# Altium schematic symbol library CONNECTEUR_FEMELLE_2-54mm_20_POS.SchLib: 1 symbol
Pins are listed as number, name and electrical type; pins without a type are passive.

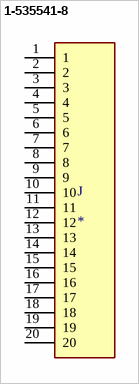
[diagram p0: symbol 1-535541-8]

## 1-535541-8
designator J
Connector Socket Strip RCP 20 POS 2.54mm Solder ST Thru-Hole Gang of Tubes; MF: TE Connectivity; Centerline_Pitch: 2.54 mm[.1 in]; Number_of_Positions: 20; MP: 1-535541-8; SnapEDA_Link: https://www.snapeda.com/parts/1-535541-8/TE%20Connectivity/view-part/1331156/?ref=snap; Value: *; EU_RoHS_Compliance: Not Compliant; Product_Type: Connector; Digi-Key_Purchase_URL: https://www.digikey.com/product-detail/en/te-connectivity-amp-connectors/1-535541-8/A26483-ND/291355?utm_source=snapeda&utm_medium=aggregator&utm_campaign=symbol; Digi-Key_Part_Number: A26483-ND; Package: None; TE_purchase_URL: https://www.te.com/usa-en/product-1-535541-8.html?te_bu=Cor&te_type=disp&te_campaign=seda_glo_cor-seda-global-disp-prtnr-fy19-seda-model-bom-cta_sma-317_1&elqCampaignId=32493
footprint TE_1-535541-8
pins: 1, 2, 3, 4, 5, 6, 7, 8, 9, 10, 11, 12, 13, 14, 15, 16, 17, 18, 19, 20